# Altium integrated library Renesas ASSP.IntLib: 185 symbols (part 5 of 6)
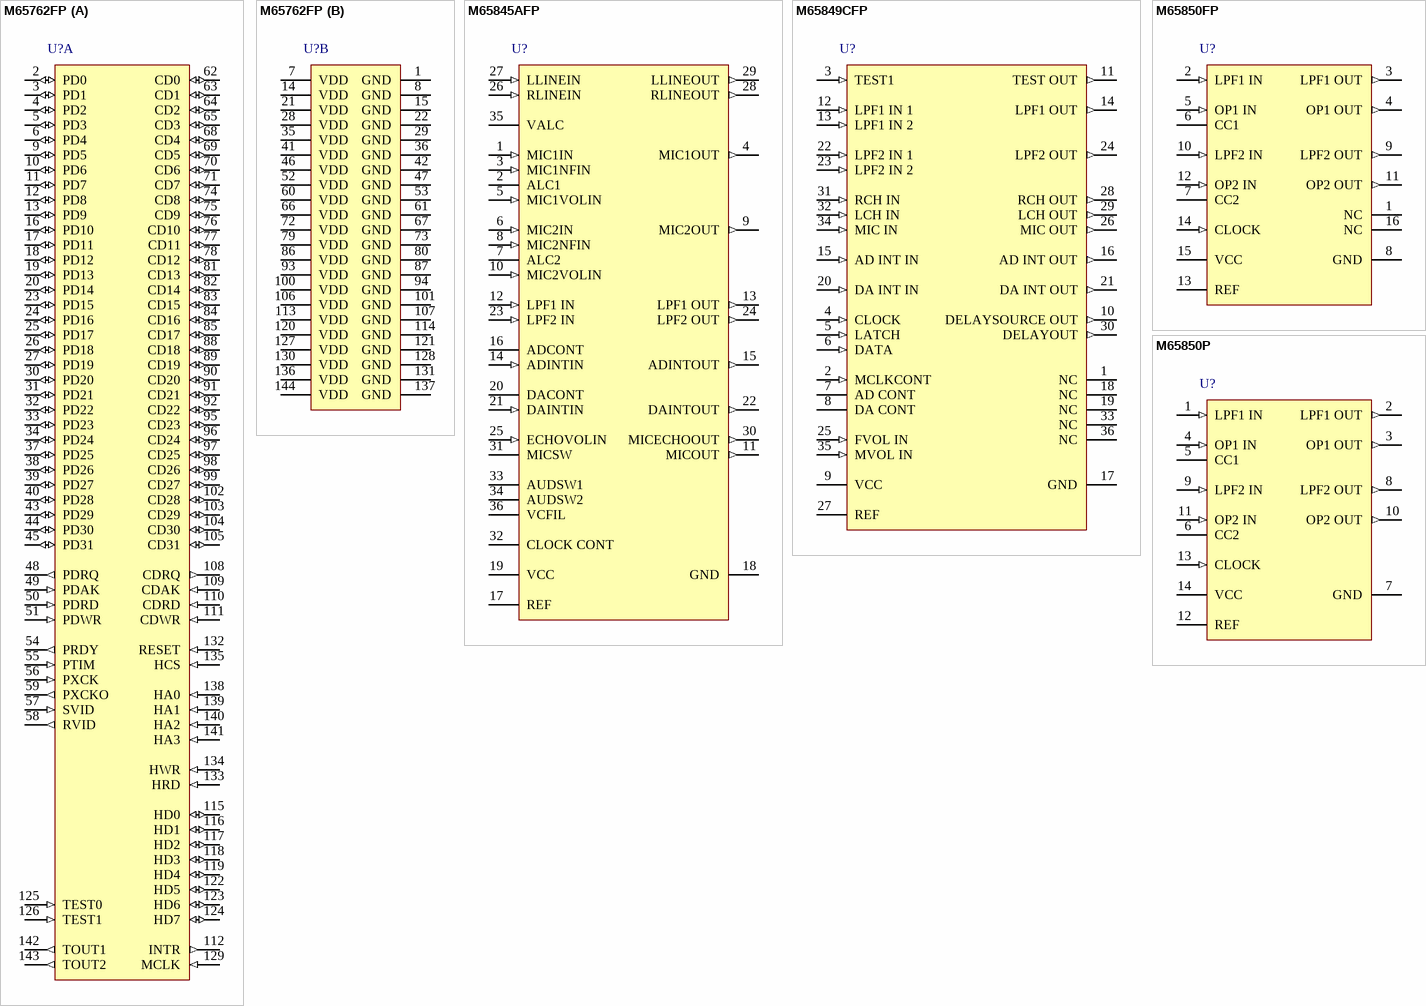
[diagram p20: symbols M65762FP to M65850P]

## M65762FP
designator U?
High-Speed Version JBIG (QM-Coder) LSI, 144-Pin QFP; Published: 5-Feb-2010; DatasheetVersion: Rev.2.00, Sep-2007; PackageVersion: Sep-2005; PackageReference: PLQP0144KA-A; Publisher: Altium Limited; PackageDescription: 144-Pin Plastic Low Profile QFP, 20 x 20 x 1.4 mm Body, 0.5 mm Pitch; Code_JEITA: P-LQFP144-20x20-0.50; Code_IPC: SQFP50P2200X2200-144; ComponentLink1Description: Manufacturer Link; ComponentLink1URL: http://sg.renesas.com/fmwk.jsp?cnt=assp_category_landing.jsp&fp=/products/assp; ComponentLink2Description: Datasheet; ComponentLink2URL: http://documentation.renesas.com/eng/products/assp/rej03f0235_m65762fpds.pdf; ComponentLink3Description: Packaging Specification; ComponentLink3URL: http://sg.renesas.com/media/products/common_info/package/pdf/ic/code/plqp0144ka_a.pdf
footprint PLQP0144KA-A_N (Shrink QFP, 144-Leads, Body 20x20mm, Pitch 0.5mm, IPC Medium Density)
footprint PLQP0144KA-A_L (Shrink QFP, 144-Leads, Body 20x20mm, Pitch 0.5mm, IPC High Density)
footprint PLQP0144KA-A_M (Shrink QFP, 144-Leads, Body 20x20mm, Pitch 0.5mm, IPC Low Density)
part A pins: 2 PD0 (io), 3 PD1 (io), 4 PD2 (io), 5 PD3 (io), 6 PD4 (io), 9 PD5 (io), 10 PD6 (io), 11 PD7 (io), 12 PD8 (io), 13 PD9 (io), 16 PD10 (io), 17 PD11 (io), 18 PD12 (io), 19 PD13 (io), 20 PD14 (io), 23 PD15 (io), 24 PD16 (io), 25 PD17 (io), 26 PD18 (io), 27 PD19 (io), 30 PD20 (io), 31 PD21 (io), 32 PD22 (io), 33 PD23 (io), 34 PD24 (io), 37 PD25 (io), 38 PD26 (io), 39 PD27 (io), 40 PD28 (io), 43 PD29 (io), 44 PD30 (io), 45 PD31 (io), 48 PDRQ (out), 49 PDAK (in), 50 PDRD (in), 51 PDWR (in), 54 PRDY (out), 55 PTIM (in), 56 PXCK (in), 57 SVID (in), 58 RVID (out), 59 PXCKO (out), 62 CD0 (io), 63 CD1 (io), 64 CD2 (io), 65 CD3 (io), 68 CD4 (io), 69 CD5 (io), 70 CD6 (io), 71 CD7 (io), 74 CD8 (io), 75 CD9 (io), 76 CD10 (io), 77 CD11 (io), 78 CD12 (io), 81 CD13 (io), 82 CD14 (io), 83 CD15 (io), 84 CD16 (io), 85 CD17 (io), 88 CD18 (io), 89 CD19 (io), 90 CD20 (io), 91 CD21 (io), 92 CD22 (io), 95 CD23 (io), 96 CD24 (io), 97 CD25 (io), 98 CD26 (io), 99 CD27 (io), 102 CD28 (io), 103 CD29 (io), 104 CD30 (io), 105 CD31 (io), 108 CDRQ (out), 109 CDAK (in), 110 CDRD (in), 111 CDWR (in), 112 INTR (out), 115 HD0 (io), 116 HD1 (io), 117 HD2 (io), 118 HD3 (io), 119 HD4 (io), 122 HD5 (io), 123 HD6 (io), 124 HD7 (io), 125 TEST0 (in), 126 TEST1 (in), 129 MCLK (in), 132 RESET (in), 133 HRD (in), 134 HWR (in), 135 HCS (in), 138 HA0 (in), 139 HA1 (in), 140 HA2 (in), 141 HA3 (in), 142 TOUT1 (out), 143 TOUT2 (out)
part B pins: 1 GND (power), 7 VDD (power), 8 GND (power), 14 VDD (power), 15 GND (power), 21 VDD (power), 22 GND (power), 28 VDD (power), 29 GND (power), 35 VDD (power), 36 GND (power), 41 VDD (power), 42 GND (power), 46 VDD (power), 47 GND (power), 52 VDD (power), 53 GND (power), 60 VDD (power), 61 GND (power), 66 VDD (power), 67 GND (power), 72 VDD (power), 73 GND (power), 79 VDD (power), 80 GND (power), 86 VDD (power), 87 GND (power), 93 VDD (power), 94 GND (power), 100 VDD (power), 101 GND (power), 106 VDD (power), 107 GND (power), 113 VDD (power), 114 GND (power), 120 VDD (power), 121 GND (power), 127 VDD (power), 128 GND (power), 130 VDD (power), 131 GND (power), 136 VDD (power), 137 GND (power), 144 VDD (power)

## M65845AFP
designator U?
Single Chip Mic Echo, 36-Pin SOP; Published: 5-Feb-2010; DatasheetVersion: Rev.2.01, Jan-2007; PackageVersion: Sep-2005; PackageReference: PRSP0036GA-A; Publisher: Altium Limited; PackageDescription: 36-Pin Plastic Shrink SOP, 15 x 8.4 mm Body, 0.8 mm Pitch; Code_JEITA: P-SSOP36-8.4x15-0.80; ComponentLink1Description: Manufacturer Link; ComponentLink1URL: http://sg.renesas.com/fmwk.jsp?cnt=assp_category_landing.jsp&fp=/products/assp; ComponentLink2Description: Datasheet; ComponentLink2URL: http://documentation.renesas.com/eng/products/assp/rej03f0170_m65845afpds.pdf; ComponentLink3Description: Packaging Specification; ComponentLink3URL: http://sg.renesas.com/media/products/common_info/package/pdf/ic/code/prsp0036ga_a.pdf
footprint PRSP0036GA-A_N (SOP, 36-Leads, Body 15x8.4mm, Pitch 0.8mm, IPC Medium Density)
footprint PRSP0036GA-A_L (SOP, 36-Leads, Body 15x8.4mm, Pitch 0.8mm, IPC High Density)
footprint PRSP0036GA-A_M (SOP, 36-Leads, Body 15x8.4mm, Pitch 0.8mm, IPC Low Density)
pins: 1 MIC1IN (in), 2 ALC1, 3 MIC1NFIN (in), 4 MIC1OUT (out), 5 MIC1VOLIN (in), 6 MIC2IN (in), 7 ALC2, 8 MIC2NFIN (in), 9 MIC2OUT (out), 10 MIC2VOLIN (in), 11 MICOUT (out), 12 LPF1 IN (in), 13 LPF1 OUT (out), 14 ADINTIN (in), 15 ADINTOUT (out), 16 ADCONT, 17 REF, 18 GND (power), 19 VCC (power), 20 DACONT, 21 DAINTIN (in), 22 DAINTOUT (out), 23 LPF2 IN (in), 24 LPF2 OUT (out), 25 ECHOVOLIN (in), 26 RLINEIN (in), 27 LLINEIN (in), 28 RLINEOUT (out), 29 LLINEOUT (out), 30 MICECHOOUT (out), 31 MICSW, 32 CLOCK CONT, 33 AUDSW1, 34 AUDSW2, 35 VALC, 36 VCFIL

## M65849CFP
designator U?
Single Chip Surround Processor, 36-Pin SOP; Published: 5-Feb-2010; DatasheetVersion: Rev.1.00, Sep-2003; PackageVersion: Sep-2005; PackageReference: PRSP0036GA-B; Publisher: Altium Limited; PackageDescription: 36-Pin Plastic Shrink SOP, 15 x 8.4 mm Body, 0.8 mm Pitch; Code_JEITA: P-SSOP36-8.4x15-0.80; ComponentLink1Description: Manufacturer Link; ComponentLink1URL: http://sg.renesas.com/fmwk.jsp?cnt=assp_category_landing.jsp&fp=/products/assp; ComponentLink2Description: Datasheet; ComponentLink2URL: http://documentation.renesas.com/eng/products/assp/rej03f0020_m65849cfp.pdf; ComponentLink3Description: Packaging Specification; ComponentLink3URL: http://sg.renesas.com/media/products/common_info/package/pdf/ic/code/prsp0036ga_b.pdf
footprint PRSP0036GA-B_N (SOP, 36-Leads, Body 15x8.4mm, Pitch 0.8mm, IPC Medium Density)
footprint PRSP0036GA-B_L (SOP, 36-Leads, Body 15x8.4mm, Pitch 0.8mm, IPC High Density)
footprint PRSP0036GA-B_M (SOP, 36-Leads, Body 15x8.4mm, Pitch 0.8mm, IPC Low Density)
pins: 1 NC, 2 MCLKCONT (in), 3 TEST1 (in), 4 CLOCK (in), 5 LATCH (in), 6 DATA (in), 7 AD CONT, 8 DA CONT, 9 VCC (power), 10 DELAYSOURCE OUT (out), 11 TEST OUT (out), 12 LPF1 IN 1 (in), 13 LPF1 IN 2 (in), 14 LPF1 OUT (out), 15 AD INT IN (in), 16 AD INT OUT (out), 17 GND (power), 18 NC, 19 NC, 20 DA INT IN (in), 21 DA INT OUT (out), 22 LPF2 IN 1 (in), 23 LPF2 IN 2 (in), 24 LPF2 OUT (out), 25 FVOL IN (in), 26 MIC OUT (out), 27 REF, 28 RCH OUT (out), 29 LCH OUT (out), 30 DELAYOUT (out), 31 RCH IN (in), 32 LCH IN (in), 33 NC, 34 MIC IN (in), 35 MVOL IN (in), 36 NC

## M65850FP
designator U?
Single Chip Digital Echo, 16-Pin SOP; Published: 5-Feb-2010; DatasheetVersion: Rev.2.01, Jan-2008; PackageVersion: Sep-2005; PackageReference: PRSP0016DE-A; Publisher: Altium Limited; PackageDescription: 16-Pin Plastic Small Outline Package 1.27 mm Pitch; Code_JEITA: P-SOP16-5.3x10.1-1.27; ComponentLink1Description: Manufacturer Link; ComponentLink1URL: http://sg.renesas.com/fmwk.jsp?cnt=assp_category_landing.jsp&fp=/products/assp; ComponentLink2Description: Datasheet; ComponentLink2URL: http://documentation.renesas.com/eng/products/assp/rej03f0171_m65850pds.pdf; ComponentLink3Description: Packaging Specification; ComponentLink3URL: http://sg.renesas.com/media/products/common_info/package/pdf/ic/code/prsp0016de_a.pdf
footprint PRSP0016DE-A_N (SOP, 16-Leads, Body 10.1x5.3mm, Pitch 1.27mm, IPC Medium Density)
footprint PRSP0016DE-A_L (SOP, 16-Leads, Body 10.1x5.3mm, Pitch 1.27mm, IPC High Density)
footprint PRSP0016DE-A_M (SOP, 16-Leads, Body 10.1x5.3mm, Pitch 1.27mm, IPC Low Density)
pins: 1 NC, 2 LPF1 IN (in), 3 LPF1 OUT (out), 4 OP1 OUT (out), 5 OP1 IN (in), 6 CC1, 7 CC2, 8 GND (power), 9 LPF2 OUT (out), 10 LPF2 IN (in), 11 OP2 OUT (out), 12 OP2 IN (in), 13 REF, 14 CLOCK (in), 15 VCC (power), 16 NC

## M65850P
designator U?
Single Chip Digital Echo, 14-Pin DIP; Published: 5-Feb-2010; DatasheetVersion: Rev.2.01, Jan-2008; PackageVersion: 2008; PackageReference: PRDP0014AA-A; Publisher: Altium Limited; PackageDescription: 14-Pin Plastic DIP, 19 x 6.3 mm Body, 7.62 mm Row Spacing, Pitch 2.54 mm; Code_JEITA: P-DIP14-6.3x19-2.54; ComponentLink1Description: Manufacturer Link; ComponentLink1URL: http://sg.renesas.com/fmwk.jsp?cnt=assp_category_landing.jsp&fp=/products/assp; ComponentLink2Description: Datasheet; ComponentLink2URL: http://documentation.renesas.com/eng/products/assp/rej03f0171_m65850pds.pdf; ComponentLink3Description: Packaging Specification; ComponentLink3URL: http://sg.renesas.com/media/products/common_info/package/pdf/ic/code/prdp0014aa_a.pdf
footprint PRDP0014AA-A (DIP, 14-Leads, Row Spacing 7.62mm, Pitch 2.54mm, Body 19x6.3mm)
pins: 1 LPF1 IN (in), 2 LPF1 OUT (out), 3 OP1 OUT (out), 4 OP1 IN (in), 5 CC1, 6 CC2, 7 GND (power), 8 LPF2 OUT (out), 9 LPF2 IN (in), 10 OP2 OUT (out), 11 OP2 IN (in), 12 REF, 13 CLOCK (in), 14 VCC (power)

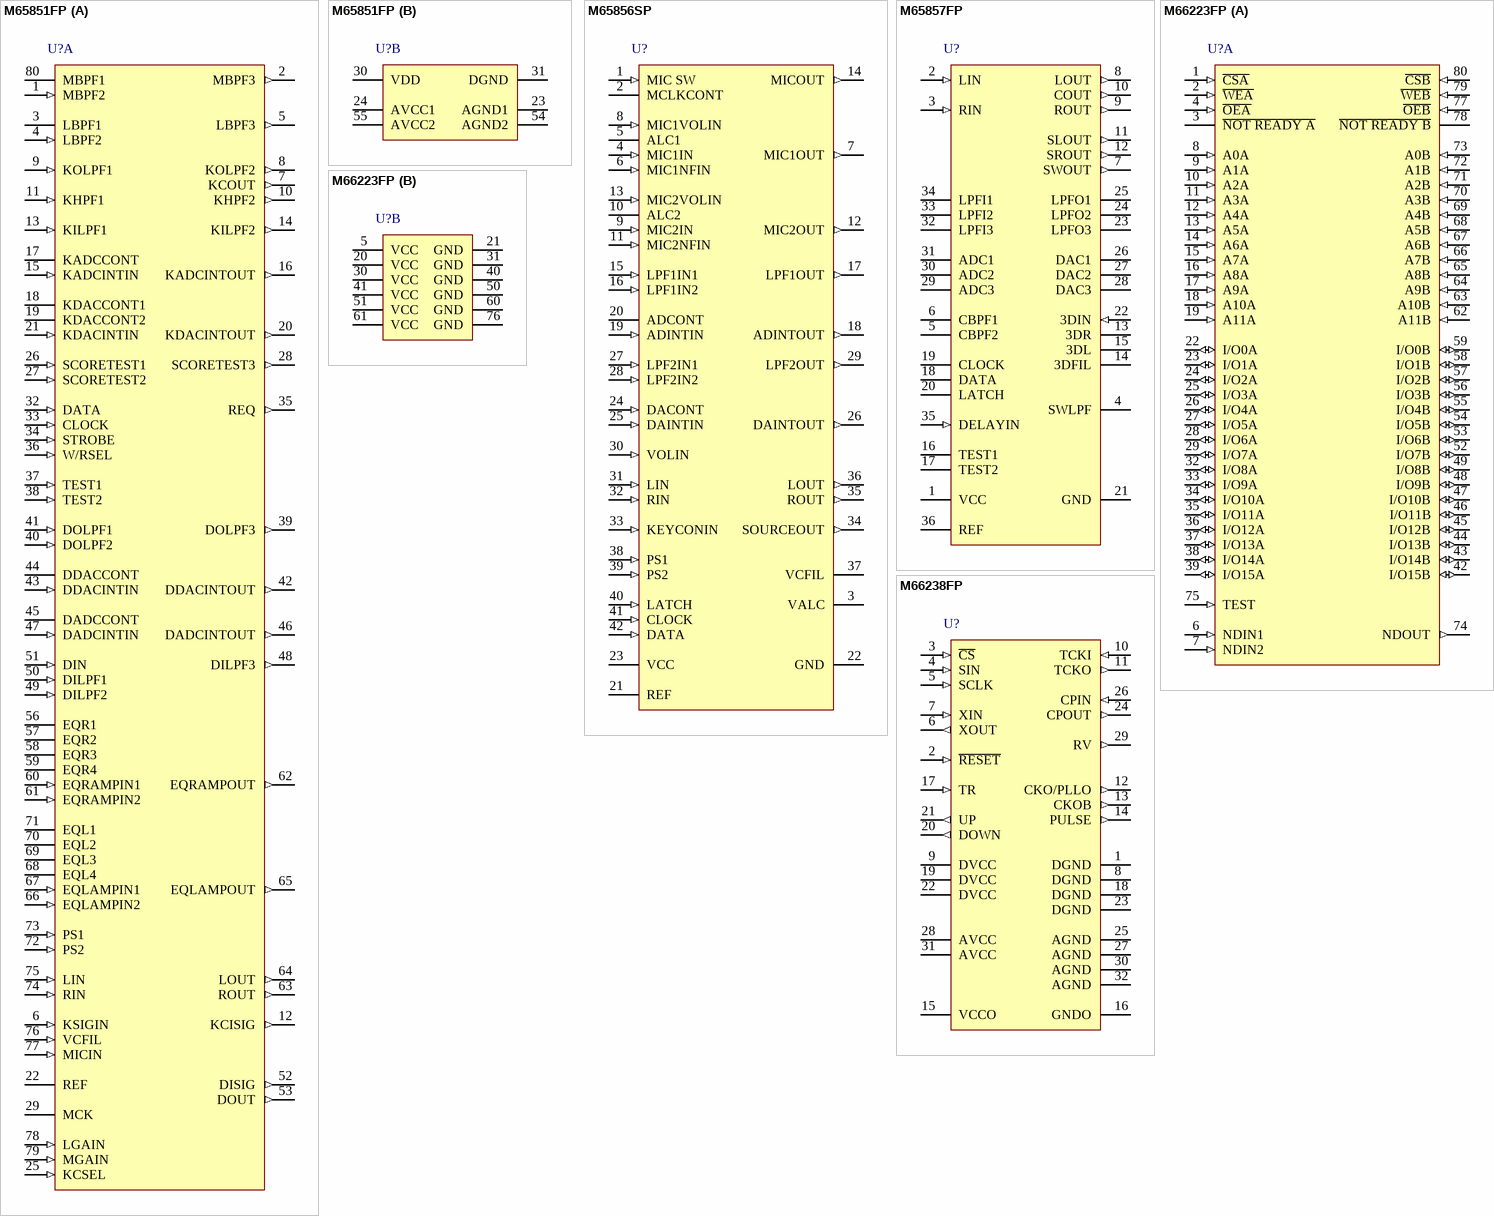
[diagram p13: symbols M65851FP to M66238FP]

## M65851FP
designator U?
Single Chip Karaoke Processor, 80-Pin QFP; Published: 5-Feb-2010; DatasheetVersion: Rev.2.01, Jan-2008; PackageVersion: Sep-2005; PackageReference: PRQP0080GB-A; Publisher: Altium Limited; PackageDescription: 80-Pin Plastic Quad Flat Pack, 20 x 14 x 2.8 mm Body, 0.8 mm Pitch; Code_JEITA: P-QFP80-14x20-0.80; ComponentLink1Description: Manufacturer Link; ComponentLink1URL: http://sg.renesas.com/fmwk.jsp?cnt=assp_category_landing.jsp&fp=/products/assp; ComponentLink2Description: Datasheet; ComponentLink2URL: http://documentation.renesas.com/eng/products/assp/rej03f0172_m65851fpds.pdf; ComponentLink3Description: Packaging Specification; ComponentLink3URL: http://sg.renesas.com/media/products/common_info/package/pdf/ic/code/prqp0080gb_a.pdf
footprint PRQP0080GB-A_N (QFP, 80-Leads, Body 20x14mm, Pitch 0.8mm, IPC Medium Density)
footprint PRQP0080GB-A_L (QFP, 80-Leads, Body 20x14mm, Pitch 0.8mm, IPC High Density)
footprint PRQP0080GB-A_M (QFP, 80-Leads, Body 20x14mm, Pitch 0.8mm, IPC Low Density)
part A pins: 1 MBPF2 (in), 2 MBPF3 (out), 3 LBPF1, 4 LBPF2 (in), 5 LBPF3 (out), 6 KSIGIN (in), 7 KCOUT (out), 8 KOLPF2 (out), 9 KOLPF1 (in), 10 KHPF2 (out), 11 KHPF1 (in), 12 KCISIG (out), 13 KILPF1 (in), 14 KILPF2 (out), 15 KADCINTIN (in), 16 KADCINTOUT (out), 17 KADCCONT, 18 KDACCONT1, 19 KDACCONT2, 20 KDACINTOUT (out), 21 KDACINTIN (in), 22 REF, 25 KCSEL (in), 26 SCORETEST1 (in), 27 SCORETEST2 (in), 28 SCORETEST3 (out), 29 MCK, 32 DATA (in), 33 CLOCK (in), 34 STROBE (in), 35 REQ (out), 36 W/RSEL (in), 37 TEST1 (in), 38 TEST2 (in), 39 DOLPF3 (out), 40 DOLPF2 (in), 41 DOLPF1 (in), 42 DDACINTOUT (out), 43 DDACINTIN (in), 44 DDACCONT, 45 DADCCONT, 46 DADCINTOUT (out), 47 DADCINTIN (in), 48 DILPF3 (out), 49 DILPF2 (in), 50 DILPF1 (in), 51 DIN (in), 52 DISIG (out), 53 DOUT (out), 56 EQR1, 57 EQR2, 58 EQR3, 59 EQR4, 60 EQRAMPIN1 (in), 61 EQRAMPIN2 (in), 62 EQRAMPOUT (out), 63 ROUT (out), 64 LOUT (out), 65 EQLAMPOUT (out), 66 EQLAMPIN2 (in), 67 EQLAMPIN1 (in), 68 EQL4, 69 EQL3, 70 EQL2, 71 EQL1, 72 PS2 (in), 73 PS1 (in), 74 RIN (in), 75 LIN (in), 76 VCFIL (in), 77 MICIN (in), 78 LGAIN (in), 79 MGAIN (in), 80 MBPF1
part B pins: 23 AGND1 (power), 24 AVCC1 (power), 30 VDD (power), 31 DGND (power), 54 AGND2 (power), 55 AVCC2 (power)

## M65856SP
designator U?
Single Chip Mic Echo, 42-Pin DIP; Published: 5-Feb-2010; DatasheetVersion: Rev.1.0, Sep-2003; PackageVersion: Sep-2005; PackageReference: PRDP0042BA-A; Publisher: Altium Limited; PackageDescription: 42-Pin Plastic Shrink DIP, 36.7 x 13 mm Body, 15.24 mm Row Spacing, 1.778 mm Pitch; Code_JEITA: P-SDIP42-13x36.72-1.78; ComponentLink1Description: Manufacturer Link; ComponentLink1URL: http://sg.renesas.com/fmwk.jsp?cnt=assp_category_landing.jsp&fp=/products/assp; ComponentLink2Description: Datasheet; ComponentLink2URL: http://documentation.renesas.com/eng/products/assp/rej03f0085_m65856sp.pdf; ComponentLink3Description: Packaging Specification; ComponentLink3URL: http://sg.renesas.com/media/products/common_info/package/pdf/ic/code/prdp0042ba_a.pdf
footprint PRDP0042BA-A (DIP, 42-Leads, Row Spacing 15.24mm, Pitch 1.778mm, Body 36.7x13mm)
pins: 1 MIC SW (in), 2 MCLKCONT, 3 VALC, 4 MIC1IN (in), 5 ALC1, 6 MIC1NFIN (in), 7 MIC1OUT (out), 8 MIC1VOLIN (in), 9 MIC2IN (in), 10 ALC2, 11 MIC2NFIN (in), 12 MIC2OUT (out), 13 MIC2VOLIN (in), 14 MICOUT (out), 15 LPF1IN1 (in), 16 LPF1IN2 (in), 17 LPF1OUT (out), 18 ADINTOUT (out), 19 ADINTIN (in), 20 ADCONT, 21 REF, 22 GND (power), 23 VCC (power), 24 DACONT (in), 25 DAINTIN (in), 26 DAINTOUT (out), 27 LPF2IN1 (in), 28 LPF2IN2 (in), 29 LPF2OUT (out), 30 VOLIN (in), 31 LIN (in), 32 RIN (in), 33 KEYCONIN (in), 34 SOURCEOUT (out), 35 ROUT (out), 36 LOUT (out), 37 VCFIL, 38 PS1 (in), 39 PS2 (in), 40 LATCH (in), 41 CLOCK (in), 42 DATA (in)

## M65857FP
designator U?
QSurround5.1, 36-Pin SOP; Published: 5-Feb-2010; DatasheetVersion: Rev.2.01, Mar-2008; PackageVersion: Sep-2005; PackageReference: PRSP0036GA-A; Publisher: Altium Limited; PackageDescription: 36-Pin Plastic Shrink SOP, 15 x 8.4 mm Body, 0.8 mm Pitch; Code_JEITA: P-SSOP36-8.4x15-0.80; ComponentLink1Description: Manufacturer Link; ComponentLink1URL: http://sg.renesas.com/fmwk.jsp?cnt=assp_category_landing.jsp&fp=/products/assp; ComponentLink2Description: Datasheet; ComponentLink2URL: http://documentation.renesas.com/eng/products/assp/rej03f0222_m65857fpds.pdf; ComponentLink3Description: Packaging Specification; ComponentLink3URL: http://sg.renesas.com/media/products/common_info/package/pdf/ic/code/prsp0036ga_a.pdf
footprint PRSP0036GA-A_N (SOP, 36-Leads, Body 15x8.4mm, Pitch 0.8mm, IPC Medium Density)
footprint PRSP0036GA-A_L (SOP, 36-Leads, Body 15x8.4mm, Pitch 0.8mm, IPC High Density)
footprint PRSP0036GA-A_M (SOP, 36-Leads, Body 15x8.4mm, Pitch 0.8mm, IPC Low Density)
pins: 1 VCC (power), 2 LIN (in), 3 RIN (in), 4 SWLPF, 5 CBPF2, 6 CBPF1, 7 SWOUT (out), 8 LOUT (out), 9 ROUT (out), 10 COUT (out), 11 SLOUT (out), 12 SROUT (out), 13 3DR, 14 3DFIL, 15 3DL, 16 TEST1, 17 TEST2, 18 DATA, 19 CLOCK, 20 LATCH, 21 GND (power), 22 3DIN (in), 23 LPFO3, 24 LPFO2, 25 LPFO1, 26 DAC1, 27 DAC2, 28 DAC3, 29 ADC3, 30 ADC2, 31 ADC1, 32 LPFI3, 33 LPFI2, 34 LPFI1, 35 DELAYIN (in), 36 REF

## M66223FP
designator U?
4096 × 16-Bit Mail Box, 80-Pin QFP; Published: 5-Feb-2010; DatasheetVersion: Rev.2.00, Sep-2007; PackageVersion: Sep-2005; PackageReference: PLQP0080KB-A; Publisher: Altium Limited; PackageDescription: 80-Pin Plastic Low Profile QFP, 12 x 12 x 1.4 mm Body, 0.5 mm Pitch; Code_JEITA: P-LQFP80-12x12-0.50; Code_IPC: SQFP50P1400X1400-80; ComponentLink1Description: Manufacturer Link; ComponentLink1URL: http://sg.renesas.com/fmwk.jsp?cnt=assp_category_landing.jsp&fp=/products/assp; ComponentLink2Description: Datasheet; ComponentLink2URL: http://documentation.renesas.com/eng/products/assp/rej03f0248_m66223fpds.pdf; ComponentLink3Description: Packaging Specification; ComponentLink3URL: http://sg.renesas.com/media/products/common_info/package/pdf/ic/code/plqp0080kb_a.pdf
footprint PLQP0080KB-A_N (Shrink QFP, 80-Leads, Body 12x12mm, Pitch 0.5mm, IPC Medium Density)
footprint PLQP0080KB-A_L (Shrink QFP, 80-Leads, Body 12x12mm, Pitch 0.5mm, IPC High Density)
footprint PLQP0080KB-A_M (Shrink QFP, 80-Leads, Body 12x12mm, Pitch 0.5mm, IPC Low Density)
part A pins: 1 ~{CSA} (in), 2 ~{WEA} (in), 3 ~{NOT READY A} (oc), 4 ~{OEA} (in), 6 NDIN1 (in), 7 NDIN2 (in), 8 A0A (in), 9 A1A (in), 10 A2A (in), 11 A3A (in), 12 A4A (in), 13 A5A (in), 14 A6A (in), 15 A7A (in), 16 A8A (in), 17 A9A (in), 18 A10A (in), 19 A11A (in), 22 I/O0A (io), 23 I/O1A (io), 24 I/O2A (io), 25 I/O3A (io), 26 I/O4A (io), 27 I/O5A (io), 28 I/O6A (io), 29 I/O7A (io), 32 I/O8A (io), 33 I/O9A (io), 34 I/O10A (io), 35 I/O11A (io), 36 I/O12A (io), 37 I/O13A (io), 38 I/O14A (io), 39 I/O15A (io), 42 I/O15B (io), 43 I/O14B (io), 44 I/O13B (io), 45 I/O12B (io), 46 I/O11B (io), 47 I/O10B (io), 48 I/O9B (io), 49 I/O8B (io), 52 I/O7B (io), 53 I/O6B (io), 54 I/O5B (io), 55 I/O4B (io), 56 I/O3B (io), 57 I/O2B (io), 58 I/O1B (io), 59 I/O0B (io), 62 A11B (in), 63 A10B (in), 64 A9B (in), 65 A8B (in), 66 A7B (in), 67 A6B (in), 68 A5B (in), 69 A4B (in), 70 A3B (in), 71 A2B (in), 72 A1B (in), 73 A0B (in), 74 NDOUT (out), 75 TEST (in), 77 ~{OEB} (in), 78 ~{NOT READY B} (oc), 79 ~{WEB} (in), 80 ~{CSB} (in)
part B pins: 5 VCC (power), 20 VCC (power), 21 GND (power), 30 VCC (power), 31 GND (power), 40 GND (power), 41 VCC (power), 50 GND (power), 51 VCC (power), 60 GND (power), 61 VCC (power), 76 GND (power)

## M66238FP
designator U?
Includes PLL frequency synthesizer Synchronous clock generator, 32-Pin SOIC; Published: 5-Feb-2010; DatasheetVersion: Rev.2.00, Mar-2008; PackageVersion: Mar-2008; PackageReference: 32P2W-A; Publisher: Altium Limited; PackageDescription: 32-Pin Plastic Small Outline Package, 20 x 8.4 mm Body, 1.27 mm Pitch; Code_JEITA: SOP32-P-450-1.27; ComponentLink1Description: Manufacturer Link; ComponentLink1URL: http://sg.renesas.com/fmwk.jsp?cnt=assp_category_landing.jsp&fp=/products/assp; ComponentLink2Description: Datasheet; ComponentLink2URL: http://documentation.renesas.com/eng/products/assp/rej03f0268_m66238fpds.pdf
footprint 32P2W-A_N (SOIC, 32-Leads, Body 20x8.4mm, Pitch 1.27mm, IPC Medium Density)
footprint 32P2W-A_L (SOIC, 32-Leads, Body 20x8.4mm, Pitch 1.27mm, IPC High Density)
footprint 32P2W-A_M (SOIC, 32-Leads, Body 20x8.4mm, Pitch 1.27mm, IPC Low Density)
pins: 1 DGND (power), 2 ~{RESET} (in), 3 ~{CS} (in), 4 SIN (in), 5 SCLK (in), 6 XOUT (out), 7 XIN (in), 8 DGND (power), 9 DVCC (power), 10 TCKI (in), 11 TCKO (out), 12 CKO/PLLO (out), 13 CKOB (out), 14 PULSE (out), 15 VCCO (power), 16 GNDO (power), 17 TR (in), 18 DGND (power), 19 DVCC (power), 20 DOWN (out), 21 UP (out), 22 DVCC (power), 23 DGND (power), 24 CPOUT (out), 25 AGND (power), 26 CPIN (in), 27 AGND (power), 28 AVCC (power), 29 RV (out), 30 AGND (power), 31 AVCC (power), 32 AGND (power)

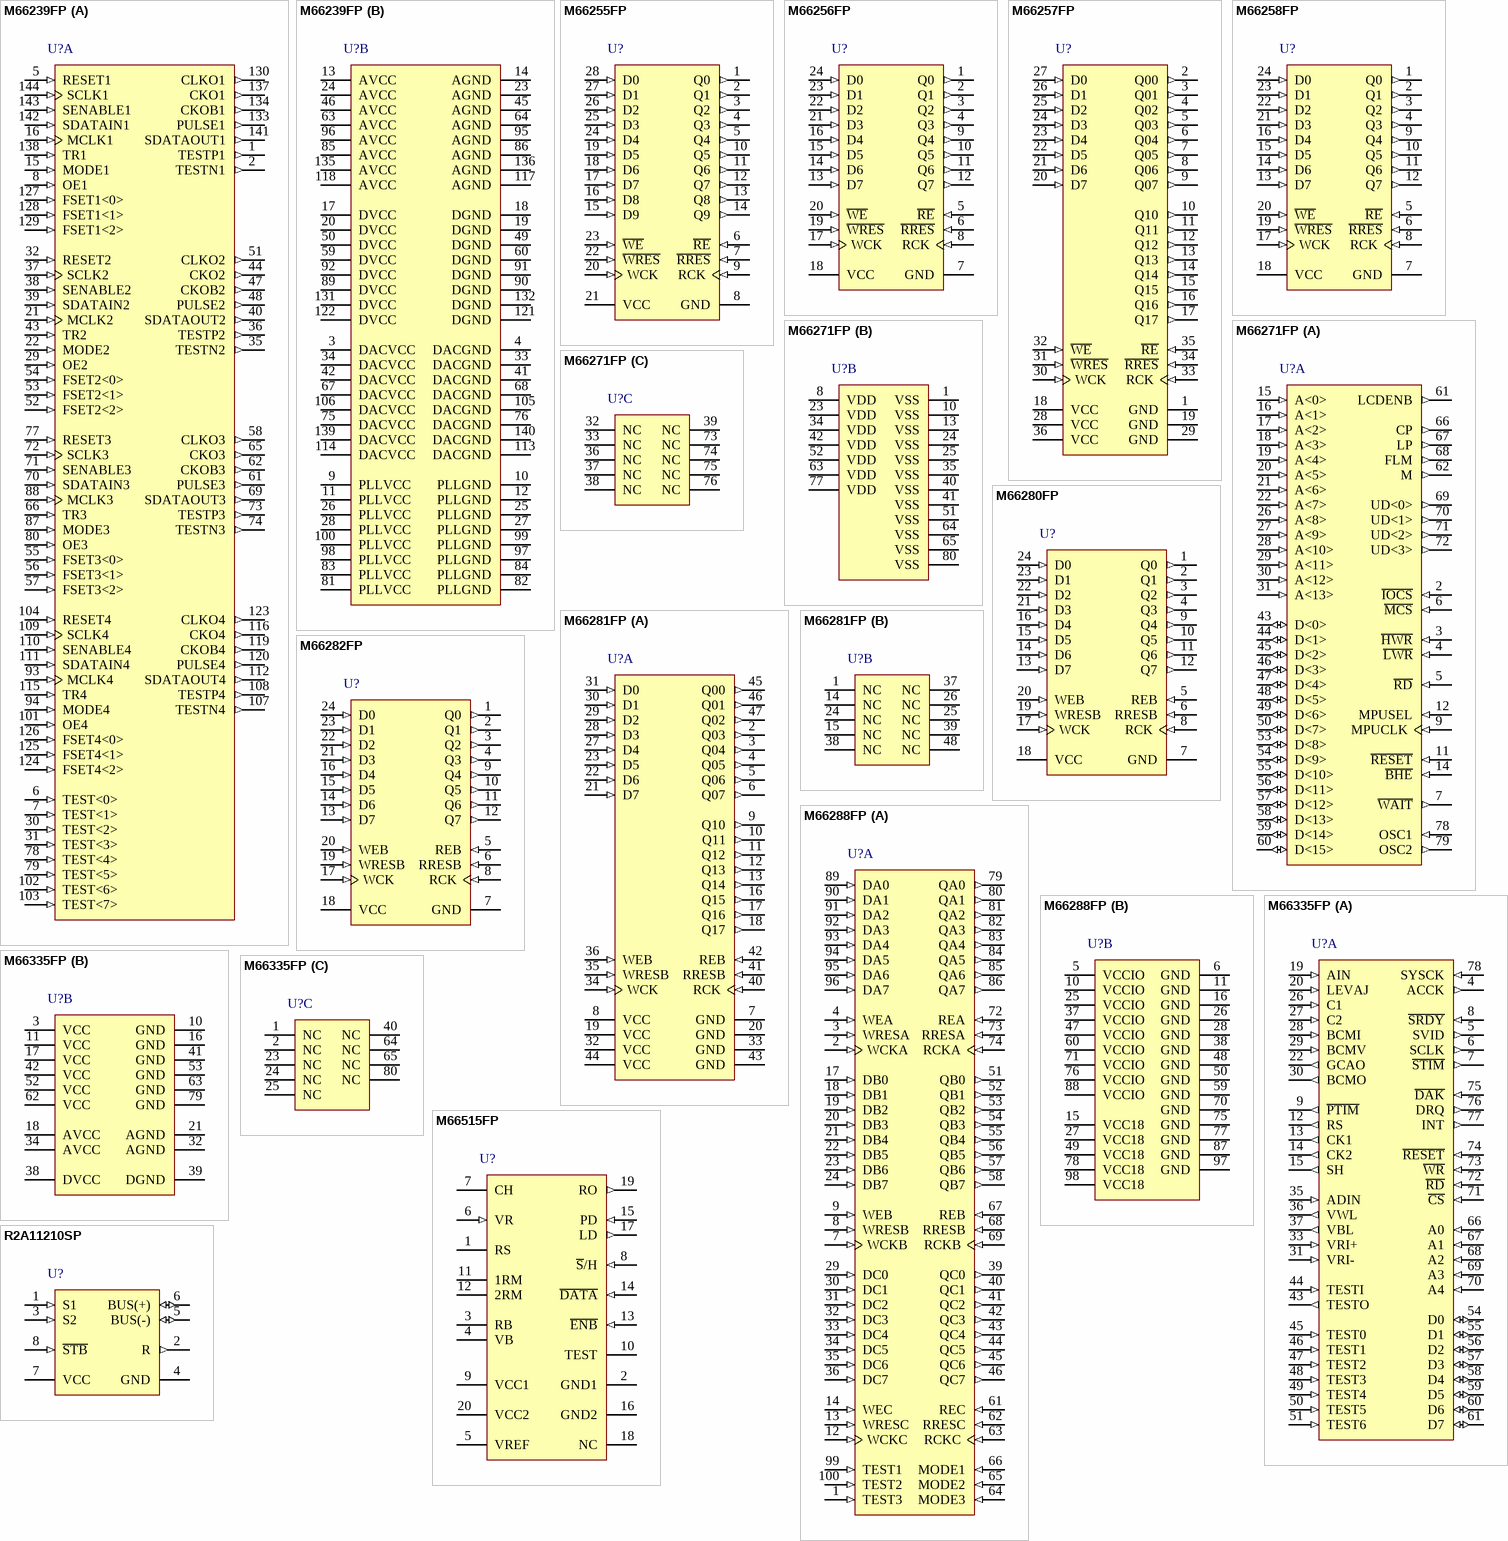
[diagram p14: symbols M66239FP to R2A11210SP]

## M66239FP
designator U?
Synchronous Clock Generator with PLL Frequency Synthesizer, 144-Pin QFP; Published: 5-Feb-2010; DatasheetVersion: Rev.1.00, Mar-2005; PackageVersion: Sep-2005; PackageReference: PLQP0144KA-A; Publisher: Altium Limited; PackageDescription: 144-Pin Plastic Low Profile QFP, 20 x 20 x 1.4 mm Body, 0.5 mm Pitch; Code_JEITA: P-LQFP144-20x20-0.50; Code_IPC: SQFP50P2200X2200-144; ComponentLink1Description: Manufacturer Link; ComponentLink1URL: http://sg.renesas.com/fmwk.jsp?cnt=assp_category_landing.jsp&fp=/products/assp; ComponentLink2Description: Datasheet; ComponentLink2URL: http://documentation.renesas.com/eng/products/assp/rej03e0002_m66239fp.pdf; ComponentLink3Description: Packaging Specification; ComponentLink3URL: http://sg.renesas.com/media/products/common_info/package/pdf/ic/code/plqp0144ka_a.pdf
footprint PLQP0144KA-A_N (Shrink QFP, 144-Leads, Body 20x20mm, Pitch 0.5mm, IPC Medium Density)
footprint PLQP0144KA-A_L (Shrink QFP, 144-Leads, Body 20x20mm, Pitch 0.5mm, IPC High Density)
footprint PLQP0144KA-A_M (Shrink QFP, 144-Leads, Body 20x20mm, Pitch 0.5mm, IPC Low Density)
part A pins: 1 TESTP1 (out), 2 TESTN1 (out), 5 RESET1 (in), 6 TEST<0> (in), 7 TEST<1> (in), 8 OE1 (in), 15 MODE1 (in), 16 MCLK1 (in), 21 MCLK2 (in), 22 MODE2 (in), 29 OE2 (in), 30 TEST<2> (in), 31 TEST<3> (in), 32 RESET2 (in), 35 TESTN2 (out), 36 TESTP2 (out), 37 SCLK2 (in), 38 SENABLE2 (in), 39 SDATAIN2 (in), 40 SDATAOUT2 (out), 43 TR2 (in), 44 CKO2 (out), 47 CKOB2 (out), 48 PULSE2 (out), 51 CLKO2 (out), 52 FSET2<2> (in), 53 FSET2<1> (in), 54 FSET2<0> (in), 55 FSET3<0> (in), 56 FSET3<1> (in), 57 FSET3<2> (in), 58 CLKO3 (out), 61 PULSE3 (out), 62 CKOB3 (out), 65 CKO3 (out), 66 TR3 (in), 69 SDATAOUT3 (out), 70 SDATAIN3 (in), 71 SENABLE3 (in), 72 SCLK3 (in), 73 TESTP3 (out), 74 TESTN3 (out), 77 RESET3 (in), 78 TEST<4> (in), 79 TEST<5> (in), 80 OE3 (in), 87 MODE3 (in), 88 MCLK3 (in), 93 MCLK4 (in), 94 MODE4 (in), 101 OE4 (in), 102 TEST<6> (in), 103 TEST<7> (in), 104 RESET4 (in), 107 TESTN4 (out), 108 TESTP4 (out), 109 SCLK4 (in), 110 SENABLE4 (in), 111 SDATAIN4 (in), 112 SDATAOUT4 (out), 115 TR4 (in), 116 CKO4 (out), 119 CKOB4 (out), 120 PULSE4 (out), 123 CLKO4 (out), 124 FSET4<2> (in), 125 FSET4<1> (in), 126 FSET4<0> (in), 127 FSET1<0> (in), 128 FSET1<1> (in), 129 FSET1<2> (in), 130 CLKO1 (out), 133 PULSE1 (out), 134 CKOB1 (out), 137 CKO1 (out), 138 TR1 (in), 141 SDATAOUT1 (out), 142 SDATAIN1 (in), 143 SENABLE1 (in), 144 SCLK1 (in)
part B pins: 3 DACVCC (power), 4 DACGND (power), 9 PLLVCC (power), 10 PLLGND (power), 11 PLLVCC (power), 12 PLLGND (power), 13 AVCC (power), 14 AGND (power), 17 DVCC (power), 18 DGND (power), 19 DGND (power), 20 DVCC (power), 23 AGND (power), 24 AVCC (power), 25 PLLGND (power), 26 PLLVCC (power), 27 PLLGND (power), 28 PLLVCC (power), 33 DACGND (power), 34 DACVCC (power), 41 DACGND (power), 42 DACVCC (power), 45 AGND (power), 46 AVCC (power), 49 DGND (power), 50 DVCC (power), 59 DVCC (power), 60 DGND (power), 63 AVCC (power), 64 AGND (power), 67 DACVCC (power), 68 DACGND (power), 75 DACVCC (power), 76 DACGND (power), 81 PLLVCC (power), 82 PLLGND (power), 83 PLLVCC (power), 84 PLLGND (power), 85 AVCC (power), 86 AGND (power), 89 DVCC (power), 90 DGND (power), 91 DGND (power), 92 DVCC (power), 95 AGND (power), 96 AVCC (power), 97 PLLGND (power), 98 PLLVCC (power), 99 PLLGND (power), 100 PLLVCC (power), 105 DACGND (power), 106 DACVCC (power), 113 DACGND (power), 114 DACVCC (power), 117 AGND (power), 118 AVCC (power), 121 DGND (power), 122 DVCC (power), 131 DVCC (power), 132 DGND (power), 135 AVCC (power), 136 AGND (power), 139 DACVCC (power), 140 DACGND (power)

## M66255FP
designator U?
8KB FIFO, 28-Pin SOIC; Published: 5-Feb-2010; DatasheetVersion: Rev.2.00, Sep-2007; PackageVersion: Sep-2005; PackageReference: PRSP0028DB-B; Publisher: Altium Limited; PackageDescription: 28-Pin Small Outline Integrated Circuit 1.27 mm Pitch; Code_JEITA: P-SOP28-8.4x17.5-1.27; ComponentLink1Description: Manufacturer Link; ComponentLink1URL: http://sg.renesas.com/fmwk.jsp?cnt=assp_category_landing.jsp&fp=/products/assp; ComponentLink2Description: Datasheet; ComponentLink2URL: http://documentation.renesas.com/eng/products/assp/rej03f0249_m66255fpds.pdf; ComponentLink3Description: Packaging Specification; ComponentLink3URL: http://sg.renesas.com/media/products/common_info/package/pdf/ic/code/prsp0028db_b.pdf
footprint PRSP0028DB-B_N (SOIC, 28-Leads, Body 17.5x8.4mm, Pitch 1.27mm, IPC Medium Density)
footprint PRSP0028DB-B_L (SOIC, 28-Leads, Body 17.5x8.4mm, Pitch 1.27mm, IPC High Density)
footprint PRSP0028DB-B_M (SOIC, 28-Leads, Body 17.5x8.4mm, Pitch 1.27mm, IPC Low Density)
pins: 1 Q0 (out), 2 Q1 (out), 3 Q2 (out), 4 Q3 (out), 5 Q4 (out), 6 ~{RE} (in), 7 ~{RRES} (in), 8 GND (power), 9 RCK (in), 10 Q5 (out), 11 Q6 (out), 12 Q7 (out), 13 Q8 (out), 14 Q9 (out), 15 D9 (in), 16 D8 (in), 17 D7 (in), 18 D6 (in), 19 D5 (in), 20 WCK (in), 21 VCC (power), 22 ~{WRES} (in), 23 ~{WE} (in), 24 D4 (in), 25 D3 (in), 26 D2 (in), 27 D1 (in), 28 D0 (in)

## M66256FP
designator U?
5KB FIFO, 24-Pin SOP; Published: 5-Feb-2010; DatasheetVersion: Rev.2.00, Sep-2007; PackageVersion: Sep-2007; PackageReference: 24P2U-A; Publisher: Altium Limited; PackageDescription: 24-Pin Plastic Small Outline Package 0.8 mm Pitch; Code_JEITA: SSOP24-P-375-0.80; ComponentLink1Description: Manufacturer Link; ComponentLink1URL: http://sg.renesas.com/fmwk.jsp?cnt=assp_category_landing.jsp&fp=/products/assp; ComponentLink2Description: Datasheet; ComponentLink2URL: http://documentation.renesas.com/eng/products/assp/rej03f0250_m66256fpds.pdf
footprint 24P2U-A_N (SOP, 24-Leads, Body 10.3x7.5mm, Pitch 0.8mm, IPC Medium Density)
footprint 24P2U-A_L (SOP, 24-Leads, Body 10.3x7.5mm, Pitch 0.8mm, IPC High Density)
footprint 24P2U-A_M (SOP, 24-Leads, Body 10.3x7.5mm, Pitch 0.8mm, IPC Low Density)
pins: 1 Q0 (out), 2 Q1 (out), 3 Q2 (out), 4 Q3 (out), 5 ~{RE} (in), 6 ~{RRES} (in), 7 GND (power), 8 RCK (in), 9 Q4 (out), 10 Q5 (out), 11 Q6 (out), 12 Q7 (out), 13 D7 (in), 14 D6 (in), 15 D5 (in), 16 D4 (in), 17 WCK (in), 18 VCC (power), 19 ~{WRES} (in), 20 ~{WE} (in), 21 D3 (in), 22 D2 (in), 23 D1 (in), 24 D0 (in)

## M66257FP
designator U?
5KB X 2 FIFO, 36-Pin SOP; Published: 5-Feb-2010; DatasheetVersion: Rev.2.00, Sep-2007; PackageVersion: Sep-2005; PackageReference: PRSP0036GA-A; Publisher: Altium Limited; PackageDescription: 36-Pin Plastic Shrink SOP, 15 x 8.4 mm Body, 0.8 mm Pitch; Code_JEITA: P-SSOP36-8.4x15-0.80; ComponentLink1Description: Manufacturer Link; ComponentLink1URL: http://sg.renesas.com/fmwk.jsp?cnt=assp_category_landing.jsp&fp=/products/assp; ComponentLink2Description: Datasheet; ComponentLink2URL: http://documentation.renesas.com/eng/products/assp/rej03f0251_m66257fpds.pdf; ComponentLink3Description: Packaging Specification; ComponentLink3URL: http://sg.renesas.com/media/products/common_info/package/pdf/ic/code/prsp0036ga_a.pdf
footprint PRSP0036GA-A_N (SOP, 36-Leads, Body 15x8.4mm, Pitch 0.8mm, IPC Medium Density)
footprint PRSP0036GA-A_L (SOP, 36-Leads, Body 15x8.4mm, Pitch 0.8mm, IPC High Density)
footprint PRSP0036GA-A_M (SOP, 36-Leads, Body 15x8.4mm, Pitch 0.8mm, IPC Low Density)
pins: 1 GND (power), 2 Q00 (out), 3 Q01 (out), 4 Q02 (out), 5 Q03 (out), 6 Q04 (out), 7 Q05 (out), 8 Q06 (out), 9 Q07 (out), 10 Q10 (out), 11 Q11 (out), 12 Q12 (out), 13 Q13 (out), 14 Q14 (out), 15 Q15 (out), 16 Q16 (out), 17 Q17 (out), 18 VCC (power), 19 GND (power), 20 D7 (in), 21 D6 (in), 22 D5 (in), 23 D4 (in), 24 D3 (in), 25 D2 (in), 26 D1 (in), 27 D0 (in), 28 VCC (power), 29 GND (power), 30 WCK (in), 31 ~{WRES} (in), 32 ~{WE} (in), 33 RCK (in), 34 ~{RRES} (in), 35 ~{RE} (in), 36 VCC (power)

## M66258FP
designator U?
8KB FIFO, 24-Pin SOP; Published: 5-Feb-2010; DatasheetVersion: Rev.2.00, Sep-2007; PackageVersion: Sep-2007; PackageReference: 24P2U-A; Publisher: Altium Limited; PackageDescription: 24-Pin Plastic Small Outline Package 0.8 mm Pitch; Code_JEITA: SSOP24-P-375-0.80; ComponentLink1Description: Manufacturer Link; ComponentLink1URL: http://sg.renesas.com/fmwk.jsp?cnt=assp_category_landing.jsp&fp=/products/assp; ComponentLink2Description: Datasheet; ComponentLink2URL: http://documentation.renesas.com/eng/products/assp/rej03f0252_m66258fpds.pdf
footprint 24P2U-A_N (SOP, 24-Leads, Body 10.3x7.5mm, Pitch 0.8mm, IPC Medium Density)
footprint 24P2U-A_L (SOP, 24-Leads, Body 10.3x7.5mm, Pitch 0.8mm, IPC High Density)
footprint 24P2U-A_M (SOP, 24-Leads, Body 10.3x7.5mm, Pitch 0.8mm, IPC Low Density)
pins: 1 Q0 (out), 2 Q1 (out), 3 Q2 (out), 4 Q3 (out), 5 ~{RE} (in), 6 ~{RRES} (in), 7 GND (power), 8 RCK (in), 9 Q4 (out), 10 Q5 (out), 11 Q6 (out), 12 Q7 (out), 13 D7 (in), 14 D6 (in), 15 D5 (in), 16 D4 (in), 17 WCK (in), 18 VCC (power), 19 ~{WRES} (in), 20 ~{WE} (in), 21 D3 (in), 22 D2 (in), 23 D1 (in), 24 D0 (in)

## M66271FP
designator U?
Operation panel controller, 80-Pin QFP; Published: 5-Feb-2010; DatasheetVersion: Rev.2.00, Mar-2008; PackageVersion: Sep-2005; PackageReference: PRQP0080GB-A; Publisher: Altium Limited; PackageDescription: 80-Pin Plastic Quad Flat Pack, 20 x 14 x 2.8 mm Body, 0.8 mm Pitch; Code_JEITA: P-QFP80-14x20-0.80; ComponentLink1Description: Manufacturer Link; ComponentLink1URL: http://sg.renesas.com/fmwk.jsp?cnt=assp_category_landing.jsp&fp=/products/assp; ComponentLink2Description: Datasheet; ComponentLink2URL: http://documentation.renesas.com/eng/products/assp/rej03f0267_m66271fpds.pdf; ComponentLink3Description: Packaging Specification; ComponentLink3URL: http://sg.renesas.com/media/products/common_info/package/pdf/ic/code/prqp0080gb_a.pdf
footprint PRQP0080GB-A_N (QFP, 80-Leads, Body 20x14mm, Pitch 0.8mm, IPC Medium Density)
footprint PRQP0080GB-A_L (QFP, 80-Leads, Body 20x14mm, Pitch 0.8mm, IPC High Density)
footprint PRQP0080GB-A_M (QFP, 80-Leads, Body 20x14mm, Pitch 0.8mm, IPC Low Density)
part A pins: 2 ~{IOCS} (in), 3 ~{HWR} (in), 4 ~{LWR} (in), 5 ~{RD} (in), 6 ~{MCS} (in), 7 ~{WAIT} (out), 9 MPUCLK (in), 11 ~{RESET} (in), 12 MPUSEL (in), 14 ~{BHE} (in), 15 A<0> (in), 16 A<1> (in), 17 A<2> (in), 18 A<3> (in), 19 A<4> (in), 20 A<5> (in), 21 A<6> (in), 22 A<7> (in), 26 A<8> (in), 27 A<9> (in), 28 A<10> (in), 29 A<11> (in), 30 A<12> (in), 31 A<13> (in), 43 D<0> (io), 44 D<1> (io), 45 D<2> (io), 46 D<3> (io), 47 D<4> (io), 48 D<5> (io), 49 D<6> (io), 50 D<7> (io), 53 D<8> (io), 54 D<9> (io), 55 D<10> (io), 56 D<11> (io), 57 D<12> (io), 58 D<13> (io), 59 D<14> (io), 60 D<15> (io), 61 LCDENB (out), 62 M (out), 66 CP (out), 67 LP (out), 68 FLM (out), 69 UD<0> (out), 70 UD<1> (out), 71 UD<2> (out), 72 UD<3> (out), 78 OSC1 (in), 79 OSC2 (out)
part B pins: 1 VSS (power), 8 VDD (power), 10 VSS (power), 13 VSS (power), 23 VDD (power), 24 VSS (power), 25 VSS (power), 34 VDD (power), 35 VSS (power), 40 VSS (power), 41 VSS (power), 42 VDD (power), 51 VSS (power), 52 VDD (power), 63 VDD (power), 64 VSS (power), 65 VSS (power), 77 VDD (power), 80 VSS (power)
part C pins: 32 NC, 33 NC, 36 NC, 37 NC, 38 NC, 39 NC, 73 NC, 74 NC, 75 NC, 76 NC

## M66280FP
designator U?
5KB FIFO, 24-Pin SOP; Published: 5-Feb-2010; DatasheetVersion: Rev.2.00, Sep-2007; PackageVersion: Sep-2005; PackageReference: PRSP0024GA-A; Publisher: Altium Limited; PackageDescription: 24-Pin Plastic Shrink SOP, 10.1 x 5.3 x 1.8 mm Body, 0.8 mm Pitch; Code_JEITA: P-SSOP24-5.3x10.1-0.80; ComponentLink1Description: Manufacturer Link; ComponentLink1URL: http://sg.renesas.com/fmwk.jsp?cnt=assp_category_landing.jsp&fp=/products/assp; ComponentLink2Description: Datasheet; ComponentLink2URL: http://documentation.renesas.com/eng/products/assp/rej03f0253_m66280fpds.pdf; ComponentLink3Description: Packaging Specification; ComponentLink3URL: http://sg.renesas.com/media/products/common_info/package/pdf/ic/code/prsp0024ga_a.pdf
footprint PRSP0024GA-A_N (SOP, 24-Leads, Body 10.1x5.3mm, Pitch 0.8mm, IPC Medium Density)
footprint PRSP0024GA-A_L (SOP, 24-Leads, Body 10.1x5.3mm, Pitch 0.8mm, IPC High Density)
footprint PRSP0024GA-A_M (SOP, 24-Leads, Body 10.1x5.3mm, Pitch 0.8mm, IPC Low Density)
pins: 1 Q0 (out), 2 Q1 (out), 3 Q2 (out), 4 Q3 (out), 5 REB (in), 6 RRESB (in), 7 GND (power), 8 RCK (in), 9 Q4 (out), 10 Q5 (out), 11 Q6 (out), 12 Q7 (out), 13 D7 (in), 14 D6 (in), 15 D5 (in), 16 D4 (in), 17 WCK (in), 18 VCC (power), 19 WRESB (in), 20 WEB (in), 21 D3 (in), 22 D2 (in), 23 D1 (in), 24 D0 (in)

## M66281FP
designator U?
5KB X 2 FIFO, 48-Pin QFP; Published: 5-Feb-2010; DatasheetVersion: Rev.2.00, Sep-2007; PackageVersion: Jan-2006; PackageReference: PRQP0048JA-A; Publisher: Altium Limited; PackageDescription: 48-Pin Plastic Quad Flat Pack, 10 x 7 x 1.85 mm Body, 0.65 mm Pitch; Code_JEITA: P-QFP48-7x10-0.65; ComponentLink1Description: Manufacturer Link; ComponentLink1URL: http://sg.renesas.com/fmwk.jsp?cnt=assp_category_landing.jsp&fp=/products/assp; ComponentLink2Description: Datasheet; ComponentLink2URL: http://documentation.renesas.com/eng/products/assp/rej03f0254_m66281fpds.pdf; ComponentLink3Description: Packaging Specification; ComponentLink3URL: http://sg.renesas.com/media/products/common_info/package/pdf/ic/code/prqp0048ja_a.pdf
footprint PRQP0048JA-A_N (QFP, 48-Leads, Body 10x7mm, Pitch 0.65mm, IPC Medium Density)
footprint PRQP0048JA-A_L (QFP, 48-Leads, Body 10x7mm, Pitch 0.65mm, IPC High Density)
footprint PRQP0048JA-A_M (QFP, 48-Leads, Body 10x7mm, Pitch 0.65mm, IPC Low Density)
part A pins: 2 Q03 (out), 3 Q04 (out), 4 Q05 (out), 5 Q06 (out), 6 Q07 (out), 7 GND (power), 8 VCC (power), 9 Q10 (out), 10 Q11 (out), 11 Q12 (out), 12 Q13 (out), 13 Q14 (out), 16 Q15 (out), 17 Q16 (out), 18 Q17 (out), 19 VCC (power), 20 GND (power), 21 D7 (in), 22 D6 (in), 23 D5 (in), 27 D4 (in), 28 D3 (in), 29 D2 (in), 30 D1 (in), 31 D0 (in), 32 VCC (power), 33 GND (power), 34 WCK (in), 35 WRESB (in), 36 WEB (in), 40 RCK (in), 41 RRESB (in), 42 REB (in), 43 GND (power), 44 VCC (power), 45 Q00 (out), 46 Q01 (out), 47 Q02 (out)
part B pins: 1 NC, 14 NC, 15 NC, 24 NC, 25 NC, 26 NC, 37 NC, 38 NC, 39 NC, 48 NC

## M66282FP
designator U?
8KB FIFO, 24-Pin SOP; Published: 5-Feb-2010; DatasheetVersion: Rev.2.00, Sep-2007; PackageVersion: Sep-2005; PackageReference: PRSP0024GA-A; Publisher: Altium Limited; PackageDescription: 24-Pin Plastic Shrink SOP, 10.1 x 5.3 x 1.8 mm Body, 0.8 mm Pitch; Code_JEITA: P-SSOP24-5.3x10.1-0.80; ComponentLink1Description: Manufacturer Link; ComponentLink1URL: http://sg.renesas.com/fmwk.jsp?cnt=assp_category_landing.jsp&fp=/products/assp; ComponentLink2Description: Datasheet; ComponentLink2URL: http://documentation.renesas.com/eng/products/assp/rej03f0255_m66282fpds.pdf; ComponentLink3Description: Packaging Specification; ComponentLink3URL: http://sg.renesas.com/media/products/common_info/package/pdf/ic/code/prsp0024ga_a.pdf
footprint PRSP0024GA-A_N (SOP, 24-Leads, Body 10.1x5.3mm, Pitch 0.8mm, IPC Medium Density)
footprint PRSP0024GA-A_L (SOP, 24-Leads, Body 10.1x5.3mm, Pitch 0.8mm, IPC High Density)
footprint PRSP0024GA-A_M (SOP, 24-Leads, Body 10.1x5.3mm, Pitch 0.8mm, IPC Low Density)
pins: 1 Q0 (out), 2 Q1 (out), 3 Q2 (out), 4 Q3 (out), 5 REB (in), 6 RRESB (in), 7 GND (power), 8 RCK (in), 9 Q4 (out), 10 Q5 (out), 11 Q6 (out), 12 Q7 (out), 13 D7 (in), 14 D6 (in), 15 D5 (in), 16 D4 (in), 17 WCK (in), 18 VCC (power), 19 WRESB (in), 20 WEB (in), 21 D3 (in), 22 D2 (in), 23 D1 (in), 24 D0 (in)

## M66288FP
designator U?
6Mbit FIFO, 100-Pin QFP; Published: 5-Feb-2010; DatasheetVersion: Rev.3.10, Apr-2008; PackageVersion: Sep-2005; PackageReference: PLQP0100KB-A; Publisher: Altium Limited; PackageDescription: 100-Pin Plastic Low Profile QFP, 14 x 14 x 1.4 mm Body, 0.5 mm Pitch; Code_JEITA: P-LQFP100-14x14-0.50; Code_IPC: SQFP50P1600X1600-100; ComponentLink1Description: Manufacturer Link; ComponentLink1URL: http://sg.renesas.com/fmwk.jsp?cnt=assp_category_landing.jsp&fp=/products/assp; ComponentLink2Description: Datasheet; ComponentLink2URL: http://documentation.renesas.com/eng/products/assp/rej03f0156_m66288fpds.pdf; ComponentLink3Description: Packaging Specification; ComponentLink3URL: http://sg.renesas.com/media/products/common_info/package/pdf/ic/code/plqp0100kb_a.pdf
footprint PLQP0100KB-A_N (Shrink QFP, 100-Leads, Body 14x14mm, Pitch 0.5mm, IPC Medium Density)
footprint PLQP0100KB-A_L (Shrink QFP, 100-Leads, Body 14x14mm, Pitch 0.5mm, IPC High Density)
footprint PLQP0100KB-A_M (Shrink QFP, 100-Leads, Body 14x14mm, Pitch 0.5mm, IPC Low Density)
part A pins: 1 TEST3 (in), 2 WCKA (in), 3 WRESA (in), 4 WEA (in), 7 WCKB (in), 8 WRESB (in), 9 WEB (in), 12 WCKC (in), 13 WRESC (in), 14 WEC (in), 17 DB0 (in), 18 DB1 (in), 19 DB2 (in), 20 DB3 (in), 21 DB4 (in), 22 DB5 (in), 23 DB6 (in), 24 DB7 (in), 29 DC0 (in), 30 DC1 (in), 31 DC2 (in), 32 DC3 (in), 33 DC4 (in), 34 DC5 (in), 35 DC6 (in), 36 DC7 (in), 39 QC0 (out), 40 QC1 (out), 41 QC2 (out), 42 QC3 (out), 43 QC4 (out), 44 QC5 (out), 45 QC6 (out), 46 QC7 (out), 51 QB0 (out), 52 QB1 (out), 53 QB2 (out), 54 QB3 (out), 55 QB4 (out), 56 QB5 (out), 57 QB6 (out), 58 QB7 (out), 61 REC (in), 62 RRESC (in), 63 RCKC (in), 64 MODE3 (in), 65 MODE2 (in), 66 MODE1 (in), 67 REB (in), 68 RRESB (in), 69 RCKB (in), 72 REA (in), 73 RRESA (in), 74 RCKA (in), 79 QA0 (out), 80 QA1 (out), 81 QA2 (out), 82 QA3 (out), 83 QA4 (out), 84 QA5 (out), 85 QA6 (out), 86 QA7 (out), 89 DA0 (in), 90 DA1 (in), 91 DA2 (in), 92 DA3 (in), 93 DA4 (in), 94 DA5 (in), 95 DA6 (in), 96 DA7 (in), 99 TEST1 (in), 100 TEST2 (in)
part B pins: 5 VCCIO (power), 6 GND (power), 10 VCCIO (power), 11 GND (power), 15 VCC18 (power), 16 GND (power), 25 VCCIO (power), 26 GND (power), 27 VCC18 (power), 28 GND (power), 37 VCCIO (power), 38 GND (power), 47 VCCIO (power), 48 GND (power), 49 VCC18 (power), 50 GND (power), 59 GND (power), 60 VCCIO (power), 70 GND (power), 71 VCCIO (power), 75 GND (power), 76 VCCIO (power), 77 GND (power), 78 VCC18 (power), 87 GND (power), 88 VCCIO (power), 97 GND (power), 98 VCC18 (power)

## M66335FP
designator U?
Image Processing Controller, 80-Pin QFP; Published: 5-Feb-2010; DatasheetVersion: Rev.2.00, Jun-2008; PackageVersion: Sep-2005; PackageReference: PRQP0080GB-A; Publisher: Altium Limited; PackageDescription: 80-Pin Plastic Quad Flat Pack, 20 x 14 x 2.8 mm Body, 0.8 mm Pitch; Code_JEITA: P-QFP80-14x20-0.80; ComponentLink1Description: Manufacturer Link; ComponentLink1URL: http://sg.renesas.com/fmwk.jsp?cnt=assp_category_landing.jsp&fp=/products/assp; ComponentLink2Description: Datasheet; ComponentLink2URL: http://documentation.renesas.com/eng/products/assp/rej03f0276_m66335fpds.pdf; ComponentLink3Description: Packaging Specification; ComponentLink3URL: http://sg.renesas.com/media/products/common_info/package/pdf/ic/code/prqp0080gb_a.pdf
footprint PRQP0080GB-A_N (QFP, 80-Leads, Body 20x14mm, Pitch 0.8mm, IPC Medium Density)
footprint PRQP0080GB-A_L (QFP, 80-Leads, Body 20x14mm, Pitch 0.8mm, IPC High Density)
footprint PRQP0080GB-A_M (QFP, 80-Leads, Body 20x14mm, Pitch 0.8mm, IPC Low Density)
part A pins: 4 ACCK (out), 5 SVID (out), 6 SCLK (out), 7 ~{STIM} (out), 8 ~{SRDY} (in), 9 ~{PTIM} (out), 12 RS (out), 13 CK1 (out), 14 CK2 (out), 15 SH (out), 19 AIN (in), 20 LEVAJ (in), 22 GCAO (out), 26 C1 (in), 27 C2 (in), 28 BCMI (in), 29 BCMV (in), 30 BCMO (out), 31 VRI- (in), 33 VRI+ (in), 35 ADIN (in), 36 VWL (out), 37 VBL (out), 43 TESTO (out), 44 TESTI (in), 45 TEST0 (in), 46 TEST1 (in), 47 TEST2 (in), 48 TEST3 (in), 49 TEST4 (in), 50 TEST5 (in), 51 TEST6 (in), 54 D0 (io), 55 D1 (io), 56 D2 (io), 57 D3 (io), 58 D4 (io), 59 D5 (io), 60 D6 (io), 61 D7 (io), 66 A0 (in), 67 A1 (in), 68 A2 (in), 69 A3 (in), 70 A4 (in), 71 ~{CS} (in), 72 ~{RD} (in), 73 ~{WR} (in), 74 ~{RESET} (in), 75 ~{DAK} (in), 76 DRQ (out), 77 INT (out), 78 SYSCK (in)
part B pins: 3 VCC (power), 10 GND (power), 11 VCC (power), 16 GND (power), 17 VCC (power), 18 AVCC (power), 21 AGND (power), 32 AGND (power), 34 AVCC (power), 38 DVCC (power), 39 DGND (power), 41 GND (power), 42 VCC (power), 52 VCC (power), 53 GND (power), 62 VCC (power), 63 GND (power), 79 GND (power)
part C pins: 1 NC, 2 NC, 23 NC, 24 NC, 25 NC, 40 NC, 64 NC, 65 NC, 80 NC

## M66515FP
designator U?
Laser Diode Driver/Controller, 20-Pin SOP; Published: 5-Feb-2010; DatasheetVersion: Rev.1.0, Sep-2003; PackageVersion: Sep-2005; PackageReference: PRSP0020DA-A; Publisher: Altium Limited; PackageDescription: 20-Pin Plastic Small Outline Package, 12.6 x 5.3 x 1.8 mm Body, 1.27 mm Pitch; Code_JEITA: P-SOP20-5.3x12.6-1.27; ComponentLink1Description: Manufacturer Link; ComponentLink1URL: http://sg.renesas.com/fmwk.jsp?cnt=assp_category_landing.jsp&fp=/products/assp; ComponentLink2Description: Datasheet; ComponentLink2URL: http://documentation.renesas.com/eng/products/assp/rej03f0084_m66515fp.pdf; ComponentLink3Description: Packaging Specification; ComponentLink3URL: http://sg.renesas.com/media/products/common_info/package/pdf/ic/code/prsp0020da_a.pdf
footprint PRSP0020DA-A_N (SOP, 20-Leads, Body 12.6x5.3mm, Pitch 1.27mm, IPC Medium Density)
footprint PRSP0020DA-A_L (SOP, 20-Leads, Body 12.6x5.3mm, Pitch 1.27mm, IPC High Density)
footprint PRSP0020DA-A_M (SOP, 20-Leads, Body 12.6x5.3mm, Pitch 1.27mm, IPC Low Density)
pins: 1 RS, 2 GND1 (power), 3 RB, 4 VB, 5 VREF (power), 6 VR (in), 7 CH, 8 ~{S}/H (in), 9 VCC1 (power), 10 TEST, 11 1RM, 12 2RM, 13 ~{ENB} (in), 14 ~{DATA} (in), 15 PD (in), 16 GND2 (power), 17 LD (out), 18 NC, 19 RO (out), 20 VCC2 (power)

## R2A11210SP
designator U?
Driver/Receiver for bus interface, 8-Pin SOP; Published: 5-Feb-2010; DatasheetVersion: Rev.1.00, Apr-2008; PackageVersion: May-2007; PackageReference: PRSP0008DE-C; Publisher: Altium Limited; PackageDescription: 8-Pin Plastic Small Outline Package 1.27 mm Pitch; Code_JEITA: P-SOP8-4.4x4.85-1.27; ComponentLink1Description: Manufacturer Link; ComponentLink1URL: http://sg.renesas.com/fmwk.jsp?cnt=assp_category_landing.jsp&fp=/products/assp; ComponentLink2Description: Datasheet; ComponentLink2URL: http://documentation.renesas.com/eng/products/assp/rej03f0284_r2a11210spds.pdf; ComponentLink3Description: Packaging Specification; ComponentLink3URL: http://sg.renesas.com/media/products/common_info/package/pdf/ic/code/prsp0008de_c.pdf
footprint PRSP0008DE-C_N (SOP, 8-Leads, Body 4.85x4.4mm, Pitch 1.27mm, IPC Medium Density)
footprint PRSP0008DE-C_L (SOP, 8-Leads, Body 4.85x4.4mm, Pitch 1.27mm, IPC High Density)
footprint PRSP0008DE-C_M (SOP, 8-Leads, Body 4.85x4.4mm, Pitch 1.27mm, IPC Low Density)
pins: 1 S1 (in), 2 R (out), 3 S2 (in), 4 GND (power), 5 BUS(-) (io), 6 BUS(+) (io), 7 VCC (power), 8 ~{STB} (in)

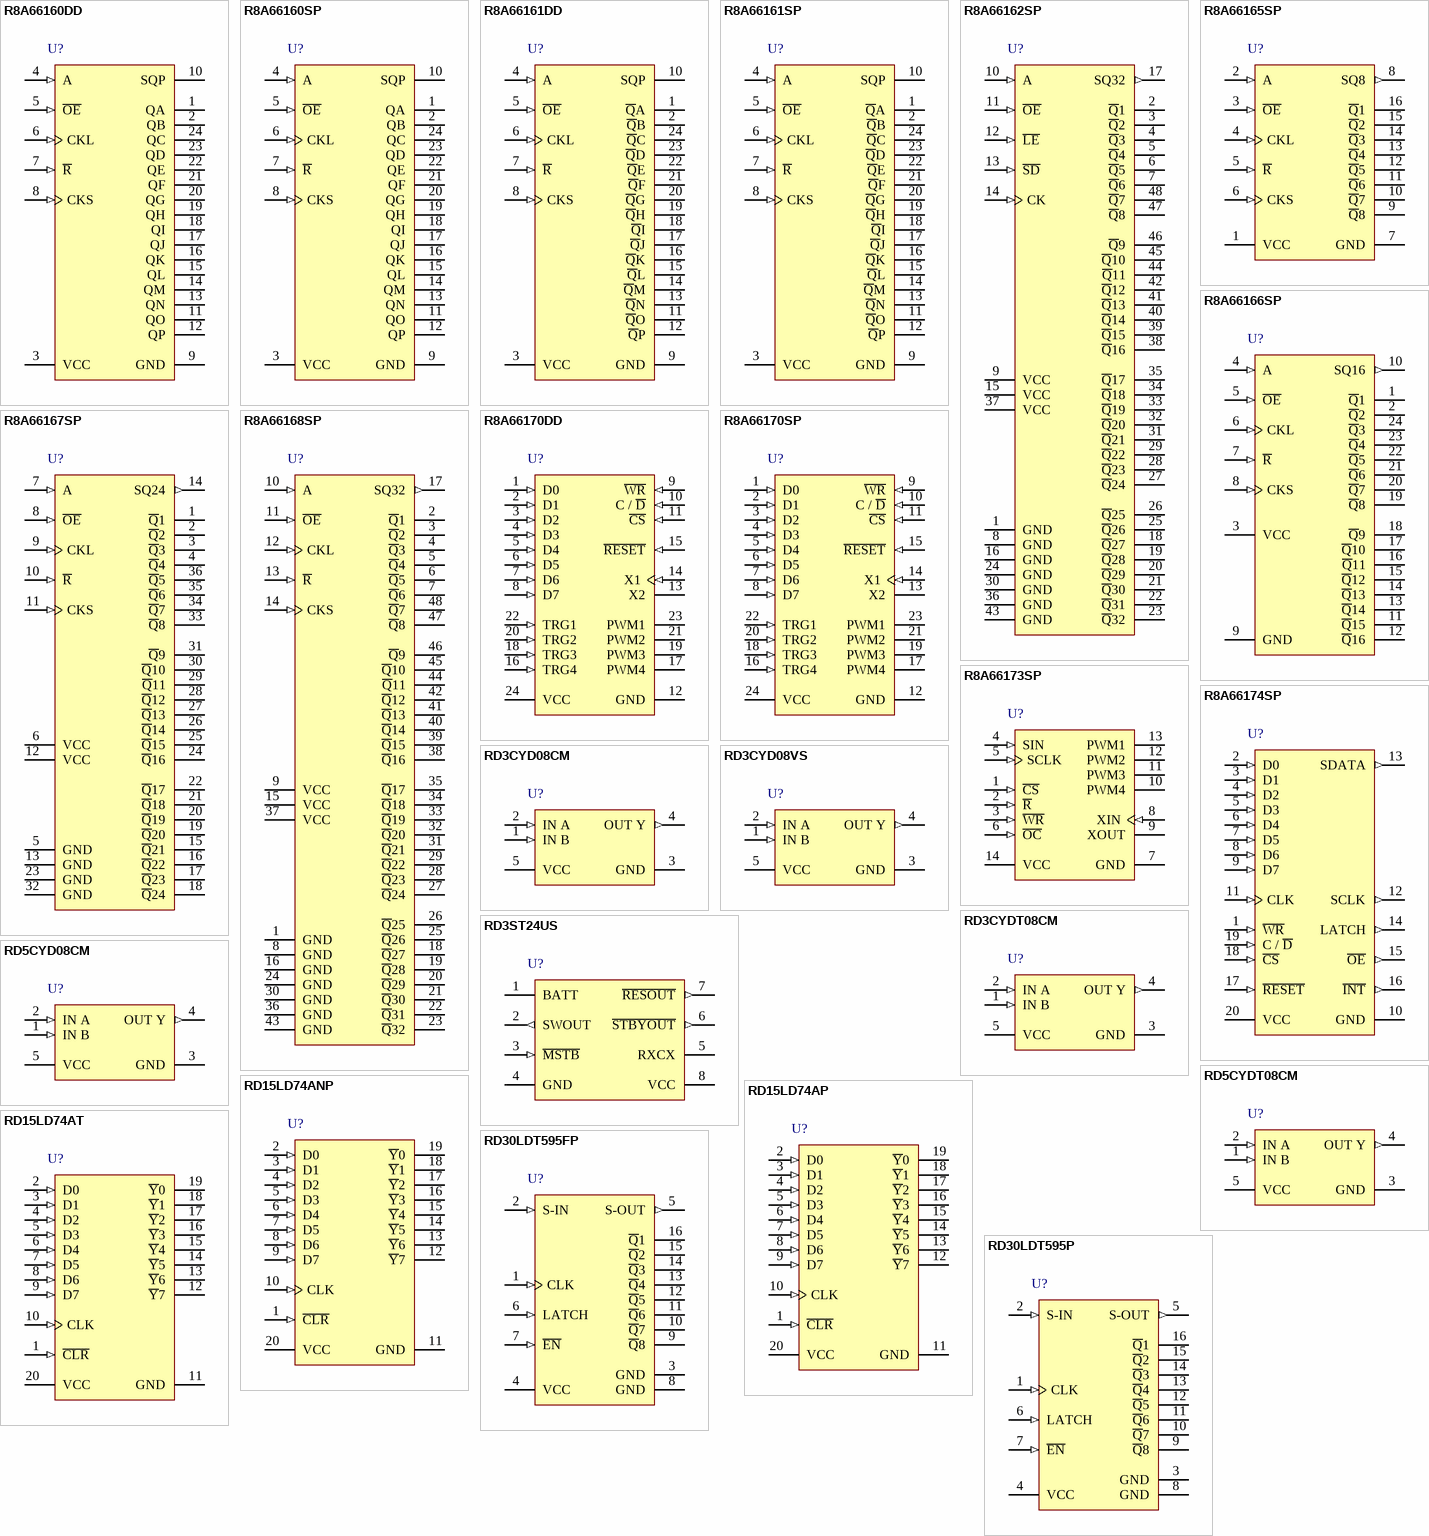
[diagram p15: symbols R8A66160DD to RD30LDT595P]

## R8A66160DD
designator U?
16-Bit LED Driver with shift resister and latch, 24-Pin DIP; Published: 5-Feb-2010; DatasheetVersion: Rev.1.00, Jan-2008; PackageVersion: 2008; PackageReference: PRDP0024AF-A; Publisher: Altium Limited; PackageDescription: 24-Pin Plastic DIP, 31.75 x 6.55 mm Body, 7.62 mm Row Spacing, Pitch 2.54 mm; ComponentLink1Description: Manufacturer Link; ComponentLink1URL: http://sg.renesas.com/fmwk.jsp?cnt=assp_category_landing.jsp&fp=/products/assp; ComponentLink2Description: Datasheet; ComponentLink2URL: http://documentation.renesas.com/eng/products/assp/rej03f0261_r8a66160ds.pdf; ComponentLink3Description: Packaging Specification; ComponentLink3URL: http://sg.renesas.com/media/products/common_info/package/pdf/ic/code/prdp0024af_a.pdf
footprint PRDP0024AF-A (DIP, 24-Leads, Row Spacing 7.62mm, Pitch 2.54mm, Body 31.75x6.54mm)
pins: 1 QA (hiz), 2 QB (hiz), 3 VCC (power), 4 A (in), 5 ~{OE} (in), 6 CKL (in), 7 ~{R} (in), 8 CKS (in), 9 GND (power), 10 SQP (oc), 11 QO (hiz), 12 QP (hiz), 13 QN (hiz), 14 QM (hiz), 15 QL (hiz), 16 QK (hiz), 17 QJ (hiz), 18 QI (hiz), 19 QH (hiz), 20 QG (hiz), 21 QF (hiz), 22 QE (hiz), 23 QD (hiz), 24 QC (hiz)

## R8A66160SP
designator U?
16-Bit LED Driver with shift resister and latch, 24-Pin SOIC; Published: 5-Feb-2010; DatasheetVersion: Rev.1.00, Jan-2008; PackageVersion: 2009; PackageReference: PRSP0024DF-A; Publisher: Altium Limited; PackageDescription: 24-Pin Small Outline Integrated Circuit, 15.4 x 7.5 mm Body, 1.27 mm Pitch; ComponentLink1Description: Manufacturer Link; ComponentLink1URL: http://sg.renesas.com/fmwk.jsp?cnt=assp_category_landing.jsp&fp=/products/assp; ComponentLink2Description: Datasheet; ComponentLink2URL: http://documentation.renesas.com/eng/products/assp/rej03f0261_r8a66160ds.pdf; ComponentLink3Description: Packaging Specification; ComponentLink3URL: http://sg.renesas.com/media/products/common_info/package/pdf/ic/code/prsp0024df_a.pdf
footprint PRSP0024DF-A_N (SOIC, 24-Leads, Body 15.4x7.5mm, Pitch 1.27mm, IPC Medium Density)
footprint PRSP0024DF-A_L (SOIC, 24-Leads, Body 15.4x7.5mm, Pitch 1.27mm, IPC High Density)
footprint PRSP0024DF-A_M (SOIC, 24-Leads, Body 15.4x7.5mm, Pitch 1.27mm, IPC Low Density)
pins: 1 QA (hiz), 2 QB (hiz), 3 VCC (power), 4 A (in), 5 ~{OE} (in), 6 CKL (in), 7 ~{R} (in), 8 CKS (in), 9 GND (power), 10 SQP (oc), 11 QO (hiz), 12 QP (hiz), 13 QN (hiz), 14 QM (hiz), 15 QL (hiz), 16 QK (hiz), 17 QJ (hiz), 18 QI (hiz), 19 QH (hiz), 20 QG (hiz), 21 QF (hiz), 22 QE (hiz), 23 QD (hiz), 24 QC (hiz)

## R8A66161DD
designator U?
16-Bit LED Driver with shift resister and latch, 24-Pin DIP; Published: 5-Feb-2010; DatasheetVersion: Rev.1.00, Jan-2008; PackageVersion: 2008; PackageReference: PRDP0024AF-A; Publisher: Altium Limited; PackageDescription: 24-Pin Plastic DIP, 31.75 x 6.55 mm Body, 7.62 mm Row Spacing, Pitch 2.54 mm; ComponentLink1Description: Manufacturer Link; ComponentLink1URL: http://sg.renesas.com/fmwk.jsp?cnt=assp_category_landing.jsp&fp=/products/assp; ComponentLink2Description: Datasheet; ComponentLink2URL: http://documentation.renesas.com/eng/products/assp/rej03f0262_r8a66161ds.pdf; ComponentLink3Description: Packaging Specification; ComponentLink3URL: http://sg.renesas.com/media/products/common_info/package/pdf/ic/code/prdp0024af_a.pdf
footprint PRDP0024AF-A (DIP, 24-Leads, Row Spacing 7.62mm, Pitch 2.54mm, Body 31.75x6.54mm)
pins: 1 ~{Q}A (hiz), 2 ~{Q}B (hiz), 3 VCC (power), 4 A (in), 5 ~{OE} (in), 6 CKL (in), 7 ~{R} (in), 8 CKS (in), 9 GND (power), 10 SQP (oc), 11 ~{Q}O (hiz), 12 ~{Q}P (hiz), 13 ~{Q}N (hiz), 14 ~{Q}M (hiz), 15 ~{Q}L (hiz), 16 ~{Q}K (hiz), 17 ~{Q}J (hiz), 18 ~{Q}I (hiz), 19 ~{Q}H (hiz), 20 ~{Q}G (hiz), 21 ~{Q}F (hiz), 22 ~{Q}E (hiz), 23 ~{Q}D (hiz), 24 ~{Q}C (hiz)

## R8A66161SP
designator U?
16-Bit LED Driver with shift resister and latch, 24-Pin SOIC; Published: 5-Feb-2010; DatasheetVersion: Rev.1.00, Jan-2008; PackageVersion: 2009; PackageReference: PRSP0024DF-A; Publisher: Altium Limited; PackageDescription: 24-Pin Small Outline Integrated Circuit, 15.4 x 7.5 mm Body, 1.27 mm Pitch; ComponentLink1Description: Manufacturer Link; ComponentLink1URL: http://sg.renesas.com/fmwk.jsp?cnt=assp_category_landing.jsp&fp=/products/assp; ComponentLink2Description: Datasheet; ComponentLink2URL: http://documentation.renesas.com/eng/products/assp/rej03f0262_r8a66161ds.pdf; ComponentLink3Description: Packaging Specification; ComponentLink3URL: http://sg.renesas.com/media/products/common_info/package/pdf/ic/code/prsp0024df_a.pdf
footprint PRSP0024DF-A_N (SOIC, 24-Leads, Body 15.4x7.5mm, Pitch 1.27mm, IPC Medium Density)
footprint PRSP0024DF-A_L (SOIC, 24-Leads, Body 15.4x7.5mm, Pitch 1.27mm, IPC High Density)
footprint PRSP0024DF-A_M (SOIC, 24-Leads, Body 15.4x7.5mm, Pitch 1.27mm, IPC Low Density)
pins: 1 ~{Q}A (hiz), 2 ~{Q}B (hiz), 3 VCC (power), 4 A (in), 5 ~{OE} (in), 6 CKL (in), 7 ~{R} (in), 8 CKS (in), 9 GND (power), 10 SQP (oc), 11 ~{Q}O (hiz), 12 ~{Q}P (hiz), 13 ~{Q}N (hiz), 14 ~{Q}M (hiz), 15 ~{Q}L (hiz), 16 ~{Q}K (hiz), 17 ~{Q}J (hiz), 18 ~{Q}I (hiz), 19 ~{Q}H (hiz), 20 ~{Q}G (hiz), 21 ~{Q}F (hiz), 22 ~{Q}E (hiz), 23 ~{Q}D (hiz), 24 ~{Q}C (hiz)

## R8A66162SP
designator U?
32-Bit LED Driver with shift resister and latch, 48-Pin SOP; Published: 5-Feb-2010; DatasheetVersion: Rev.1.00, Jan-2008; PackageVersion: 2008; PackageReference: PRSP0048ZB-A; Publisher: Altium Limited; PackageDescription: 48-Pin Plastic Small Outline Package, 15.875 x 7.49 x 2.29 mm Body,  0.635 mm Pitch; Code_IPC: SOP635P1035-48; ComponentLink1Description: Manufacturer Link; ComponentLink1URL: http://sg.renesas.com/fmwk.jsp?cnt=assp_category_landing.jsp&fp=/products/assp; ComponentLink2Description: Datasheet; ComponentLink2URL: http://documentation.renesas.com/eng/products/assp/rej03f0263_r8a66162ds.pdf
footprint PRSP0048ZB-A_N (SOP, 48-Leads, Body 15.9x7.5mm, Pitch 0.635mm, IPC Medium Density)
footprint PRSP0048ZB-A_L (SOP, 48-Leads, Body 15.9x7.5mm, Pitch 0.635mm, IPC High Density)
footprint PRSP0048ZB-A_M (SOP, 48-Leads, Body 15.9x7.5mm, Pitch 0.635mm, IPC Low Density)
pins: 1 GND (power), 2 ~{Q}1 (hiz), 3 ~{Q}2 (hiz), 4 ~{Q}3 (hiz), 5 ~{Q}4 (hiz), 6 ~{Q}5 (hiz), 7 ~{Q}6 (hiz), 8 GND (power), 9 VCC (power), 10 A (in), 11 ~{OE} (in), 12 ~{LE} (in), 13 ~{SD} (in), 14 CK (in), 15 VCC (power), 16 GND (power), 17 SQ32 (out), 18 ~{Q}27 (hiz), 19 ~{Q}28 (hiz), 20 ~{Q}29 (hiz), 21 ~{Q}30 (hiz), 22 ~{Q}31 (hiz), 23 ~{Q}32 (hiz), 24 GND (power), 25 ~{Q}26 (hiz), 26 ~{Q}25 (hiz), 27 ~{Q}24 (hiz), 28 ~{Q}23 (hiz), 29 ~{Q}22 (hiz), 30 GND (power), 31 ~{Q}21 (hiz), 32 ~{Q}20 (hiz), 33 ~{Q}19 (hiz), 34 ~{Q}18 (hiz), 35 ~{Q}17 (hiz), 36 GND (power), 37 VCC (power), 38 ~{Q}16 (hiz), 39 ~{Q}15 (hiz), 40 ~{Q}14 (hiz), 41 ~{Q}13 (hiz), 42 ~{Q}12 (hiz), 43 GND (power), 44 ~{Q}11 (hiz), 45 ~{Q}10 (hiz), 46 ~{Q}9 (hiz), 47 ~{Q}8 (hiz), 48 ~{Q}7 (hiz)

## R8A66165SP
designator U?
8-Bit High Voltage Output LED Driver with Shift Register and Latch, 16P2X-E, 16-Pin SOIC; Published: 5-Feb-2010; DatasheetVersion: Rev.1.01, Dec-2008; PackageVersion: 2009; PackageReference: PRSP0016DJ-A; Publisher: Altium Limited; PackageDescription: 16-Pin Plastic Small Outline Integrated Circuit, 9.9 x 3.9 mm Body, 1.27 mm Pitch; Code_IPC: SOIC127P600-16; ComponentLink1Description: Manufacturer Link; ComponentLink1URL: http://sg.renesas.com/fmwk.jsp?cnt=assp_category_landing.jsp&fp=/products/assp; ComponentLink2Description: Datasheet; ComponentLink2URL: http://documentation.renesas.com/eng/products/assp/rej03f0281_r8a66165sp_ds.pdf
footprint PRSP0016DJ-A_N (SOIC, 16-Leads, Body 9.9x3.9mm, Pitch 1.27mm, IPC Medium Density)
footprint PRSP0016DJ-A_L (SOIC, 16-Leads, Body 9.9x3.9mm, Pitch 1.27mm, IPC High Density)
footprint PRSP0016DJ-A_M (SOIC, 16-Leads, Body 9.9x3.9mm, Pitch 1.27mm, IPC Low Density)
pins: 1 VCC (power), 2 A (in), 3 ~{OE} (in), 4 CKL (in), 5 ~{R} (in), 6 CKS (in), 7 GND (power), 8 SQ8 (out), 9 ~{Q}8 (hiz), 10 ~{Q}7 (hiz), 11 ~{Q}6 (hiz), 12 ~{Q}5 (hiz), 13 ~{Q}4 (hiz), 14 ~{Q}3 (hiz), 15 ~{Q}2 (hiz), 16 ~{Q}1 (hiz)

## R8A66166SP
designator U?
16-Bit High Voltage Output LED Driver with Shift Register and Latch, 24-Pin SOIC; Published: 5-Feb-2010; DatasheetVersion: Rev.1.01, Dec-2008; PackageVersion: 2009; PackageReference: PRSP0024DF-A; Publisher: Altium Limited; PackageDescription: 24-Pin Small Outline Integrated Circuit, 15.4 x 7.5 mm Body, 1.27 mm Pitch; ComponentLink1Description: Manufacturer Link; ComponentLink1URL: http://sg.renesas.com/fmwk.jsp?cnt=assp_category_landing.jsp&fp=/products/assp; ComponentLink2Description: Datasheet; ComponentLink2URL: http://documentation.renesas.com/eng/products/assp/rej03f0281_r8a66165sp_ds.pdf; ComponentLink3Description: Packaging Specification; ComponentLink3URL: http://sg.renesas.com/media/products/common_info/package/pdf/ic/code/prsp0024df_a.pdf
footprint PRSP0024DF-A_N (SOIC, 24-Leads, Body 15.4x7.5mm, Pitch 1.27mm, IPC Medium Density)
footprint PRSP0024DF-A_L (SOIC, 24-Leads, Body 15.4x7.5mm, Pitch 1.27mm, IPC High Density)
footprint PRSP0024DF-A_M (SOIC, 24-Leads, Body 15.4x7.5mm, Pitch 1.27mm, IPC Low Density)
pins: 1 ~{Q}1 (hiz), 2 ~{Q}2 (hiz), 3 VCC (power), 4 A (in), 5 ~{OE} (in), 6 CKL (in), 7 ~{R} (in), 8 CKS (in), 9 GND (power), 10 SQ16 (out), 11 ~{Q}15 (hiz), 12 ~{Q}16 (hiz), 13 ~{Q}14 (hiz), 14 ~{Q}13 (hiz), 15 ~{Q}12 (hiz), 16 ~{Q}11 (hiz), 17 ~{Q}10 (hiz), 18 ~{Q}9 (hiz), 19 ~{Q}8 (hiz), 20 ~{Q}7 (hiz), 21 ~{Q}6 (hiz), 22 ~{Q}5 (hiz), 23 ~{Q}4 (hiz), 24 ~{Q}3 (hiz)